# EAGLE library part F25 (library hs-ul)
SubD-Buchse korrigiert und verschönert
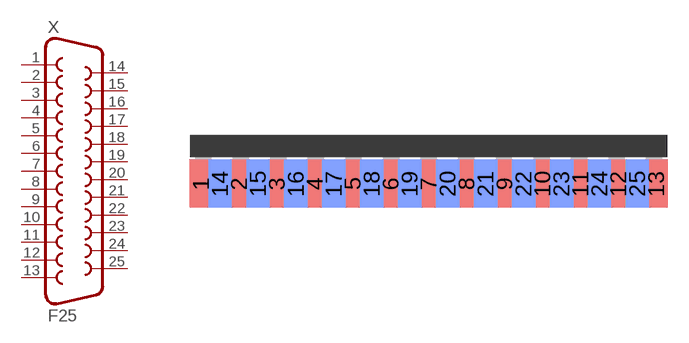
[diagram p3: symbol with the pads of F25D; footprint F25D]

Designator prefix X

## F25D  [F25D]
1  1  pas
2  2  pas
3  3  pas
4  4  pas
5  5  pas
6  6  pas
7  7  pas
8  8  pas
9  9  pas
10  10  pas
11  11  pas
12  12  pas
13  13  pas
14  14  pas
15  15  pas
16  16  pas
17  17  pas
18  18  pas
19  19  pas
20  20  pas
21  21  pas
22  22  pas
23  23  pas
24  24  pas
25  25  pas

## Footprint F25D (pad centres in mm)
SubD korrigiert, Pinabstand: 109 mil (nicht 108) Reichelt D-SUB BU 25 0,14€
smd 1.7 x 3.5: 1 -16.612,-2.249; 2 -13.843,-2.249; 3 -11.074,-2.249; 4 -8.306,-2.249; 5 -5.537,-2.249; 6 -2.769,-2.249; 7 0,-2.249; 8 2.769,-2.249; 9 5.537,-2.249; 10 8.306,-2.249; 11 11.074,-2.249; 12 13.843,-2.249; 13 16.612,-2.249
smd 1.7 x 3.5 bottom: 14 -15.227,-2.249; 15 -12.459,-2.249; 16 -9.69,-2.249; 17 -6.921,-2.249; 18 -4.153,-2.249; 19 -1.384,-2.249; 20 1.384,-2.249; 21 4.153,-2.249; 22 6.921,-2.249; 23 9.69,-2.249; 24 12.459,-2.249; 25 15.227,-2.249